# Altium schematic symbol library nPOC-BB_beta_heater-board.SCHLIB: 3 symbols
Pins are listed as number, name and electrical type; pins without a type are passive.

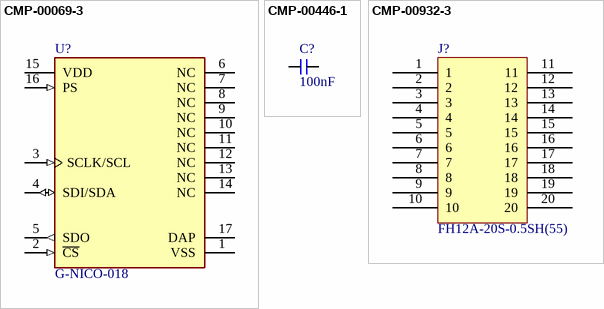
[diagram p0: symbols CMP-00069-3 to CMP-00932-3]

## CMP-00069-3
designator U?, comment G-NICO-018
TSYS01 Series 3.6 V -40 to +125 SMT Digital Temperature Sensor - QFN-16; Manufacturer: TE Connectivity; Max Supply Current: 12.5uA; Operating Supply Voltage: 3.6V; Length: 4mm; Min Operating Temperature: -40°C; Max Operating Temperature: 125°C; Height: 0.85mm; Case/Package: QFN; Lead Free: Lead Free; Sensor Type: Temperature; Width: 0.157inch; RoHS Compliant: Yes; Manufacturer Part Number: TSYS01; Manufacturer Part Number: G-NICO-018; Component Type: Sensors
footprint QFN16_4X4_P65mm (QFN 16 pin 4x4mm 0.65 pin pitch 0.9 Height)
pins: 1 VSS (power), 2 ~{CS} (in), 3 SCLK/SCL (in), 4 SDI/SDA (io), 5 SDO (out), 6 NC, 7 NC, 8 NC, 9 NC, 10 NC, 11 NC, 12 NC, 13 NC, 14 NC, 15 VDD (power), 16 PS (in), 17 DAP (power)

## CMP-00446-1
designator C?, comment 100nF
Ceramic capacitor SMD 0402 100nF 16V X7R 10%; Manufacturer: Samsung; Manufacturer Part Number: CL05B104KO5NNNC; Manufacturer: Murata; Manufacturer Part Number: GRM155R71C104KA88D; Manufacturer: Yageo; Manufacturer Part Number: CC0402KRX7R7BB104; Install: POP; Voltage: 16V; Mounting Technology: Surface Mount; Width: 0.02inch; Case Code (Metric): 1005; Package Quantity: 1; Depth: 0.5mm; RoHS Compliant: Yes; Length: 1mm; Tolerance: 10%; Value: 100nF; Radiation Hardening: No; Contact Plating: Tin; Packaging: Tape and Reel; Voltage Rating (DC): 16V; Thickness: 0.022inch; Case Code (Imperial): 0402; Case/Package: 0402; Min Operating Temperature: -55°C; Max Operating Temperature: 125°C; Voltage Rating: 16V; Height: 0.5mm; Series: CL; Material: Ceramic; Construction: Flat; Lead Free: Lead Free; Dielectric: X7R; Component Type: Capacitors
footprint C0402
pins: 1, 2

## CMP-00932-3
designator J?, comment FH12A-20S-0.5SH(55)
Connectors for Connecting - 0.5/1-mm Pitch FPC/FFC - FH12 Series (HIROSE ELECTRIC); Current Rating: 500mA; Voltage Rating (AC): 50V; Number of Positions: 20; Actuator Color: Brown; Gender: Female; Contact Location: Top; Wire/Cable Type: Straight; Actuator Material: Polyphenylene; Contact Resistance: 50mR; Max Current Rating: 400mA; Install: POP; Pitch: 0.5mm; Insulation Resistance: 500MR; Housing Material: Polyamide; Reach SVHC Compliant: No; Housing Color: Beige; Radiation Hardening: No; Min Operating Temperature: -40°C; Packaging: Tape and Reel; Max Operating Temperature: 70°C; Termination: Solder; Mounting Technology: Surface Mount; Flammability Rating: UL94 V-0; Mating Cycles: 20; Color: Beige,Brown; Lead Pitch: 0.5mm; Max Voltage Rating (AC): 50V; Orientation: Right Angle; RoHS Compliant: Yes; Voltage Rating: 50V; Material: Polyamide; Lead Free: Lead Free; Package Quantity: 2000; Contact Plating: Gold; Series: FH12; Length: 14.5mm; Number of Contacts: 20; Number of Rows: 1; Contact Material: Bronze; Width: 14.1mm; Depth: 6.2mm; Manufacturer: Hirose; Manufacturer Part Number: FH12A-20S-0.5SH(55); Component Type: Connectors
footprint hirose_fh12a-20s-0p5sh55 (Hirose FH12A Series 0.5mm pitch top contact FPC/FFC)
pins: 1, 2, 3, 4, 5, 6, 7, 8, 9, 10, 11, 12, 13, 14, 15, 16, 17, 18, 19, 20